# EAGLE library part AQV212 (library AQV212)
Solid State Relays - PCB Mount 550MA 60V 6PIN SPST Source: Datasheet <https://na.industrial.panasonic.com/products/relays/semiconductor-relays/photomos-relays/series/photomos-gu-1-form-dip6-pin-type/1922/model/AQV212>
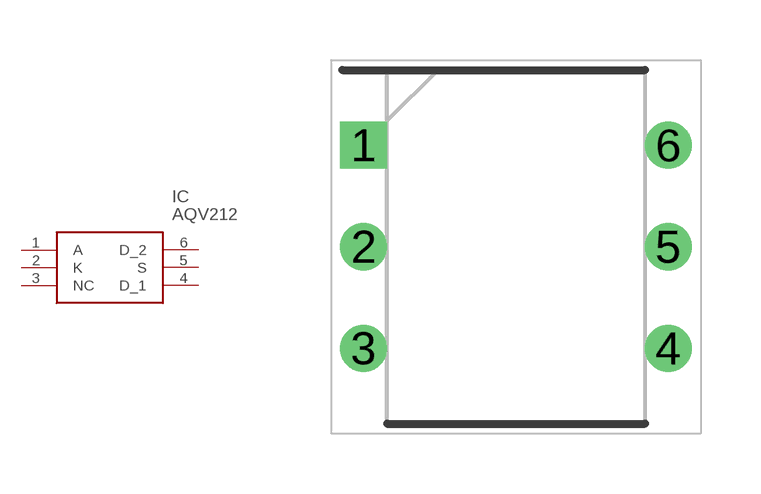
[diagram p0: symbol with the pads of DIP762W47P254L880H410Q6N; footprint DIP762W47P254L880H410Q6N]

Designator prefix IC

## AQV212 (Description: Solid State Relays - PCB Mount 550MA 60V 6PIN SPST; Height: 4.1mm; Manufacturer_Name: Panasonic; Manufacturer_Part_Number: AQV212; Mouser_Part_Number: 769-AQV212; Mouser_Price-Stock: https://www.mouser.co.uk/ProductDetail/Panasonic-Industrial-Devices/AQV212?qs=mTeSeKeuVA4GB1tVP0FFxg%3D%3D)  [DIP762W47P254L880H410Q6N]
1  A
2  K
3  NC  nc
4  D_1
5  S
6  D_2

## Footprint DIP762W47P254L880H410Q6N (pad centres in mm)
DIP_6
drill 0.67 pad 1.07 square: 1 -3.81,2.54
drill 0.67 pad 1.07: 2 -3.81,0; 3 -3.81,-2.54; 4 3.81,-2.54; 5 3.81,0; 6 3.81,2.54